# Altium integrated library Renesas Microprocessor SuperH.IntLib: 433 symbols (part 9 of 62)
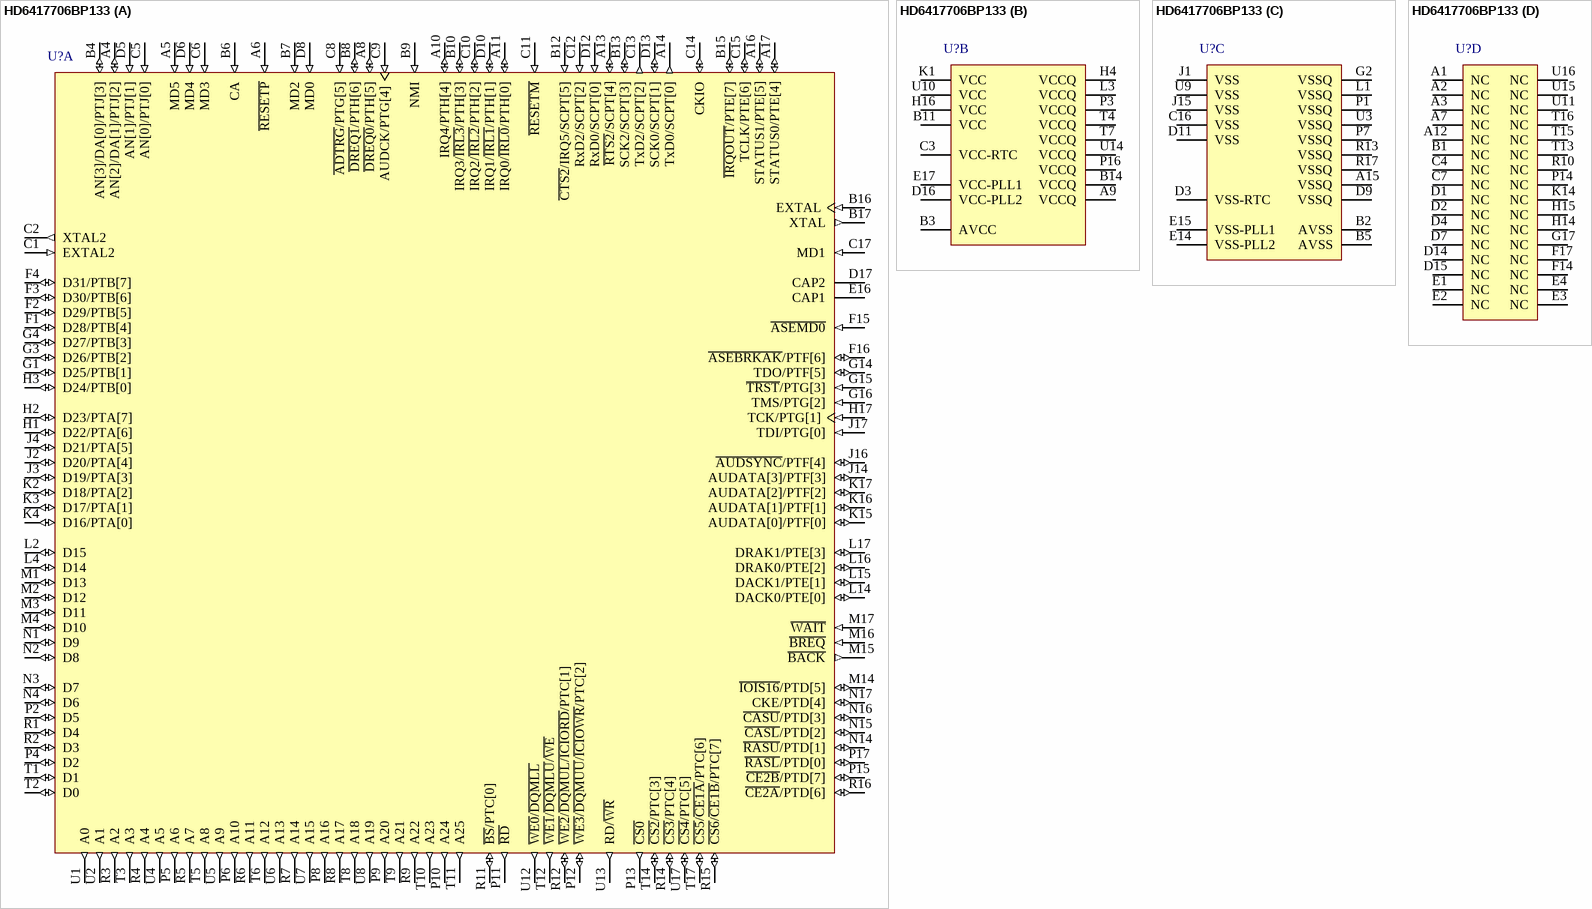
[diagram p284: symbol HD6417706BP133]

## HD6417706BP133
designator U?
32-Bit RISC Microcomputer, SH7700 Series, SH-3 core, 133MHz, 208-pin TFBGA, -20 to 75°C; Published: 28-Aug-2009; DatasheetVersion: Rev.5.00, May-2006; PackageVersion: Sep-2005; PackageReference: TTBG0208JA-A; Publisher: Altium Limited; PackageDescription: 208-Ball Thin Fine-Pitch Ball Grid Array, 12 x 12 mm Body, 0.65 mm Pitch; Code_JEITA: T-TFBGA208-12x12-0.65; ComponentLink1Description: Manufacturer Link; ComponentLink1URL: http://www.renesas.com/fmwk.jsp?cnt=sh7706_root.jsp&fp=/products/mpumcu/superh_family/sh7700_series/sh7706_group/; ComponentLink2Description: Datasheet; ComponentLink2URL: http://documentation.renesas.com/eng/products/mpumcu/rej09b0146_sh7706.pdf; ComponentLink3Description: Packaging Specification; ComponentLink3URL: http://sg.renesas.com/media/products/common_info/package/pdf/ic/code/ttbg0208ja_a.pdf
footprint TTBG0208JA-A (BGA, 208-Leads, Body 12x12mm, Pitch 0.65mm)
part A pins: A4 AN[2]/DA[1]/PTJ[2] (io) "A/D converter input / D/A converter output / input port J", A5 MD5 (in) "Endian setting", A6 ~{RESETP} (in) "Power-on reset request", A8 ~{DREQ0}/PTH[5] (io) "DMA request / input/output port H", A10 IRQ4/PTH[4] (io) "External interrupt request / input/output port H", A11 IRQ0/~{IRL0}/PTH[0] (io) "External interrupt request / input/output port H", A13 ~{RTS2}/SCPT[4] (io) "SCIF transmit request 2 / SC port", A14 TxD0/SCPT[0] (out) "SCI transmit data 0 / SC port", A16 STATUS1/PTE[5] (io) "Processor status / input/output port E", A17 STATUS0/PTE[4] (io) "Processor status / input/output port E", B4 AN[3]/DA[0]/PTJ[3] (io) "A/D converter input / D/A converter output / input port J", B6 CA (in) "Chip activate / hardware standby request", B7 MD2 (in) "Clock mode setting", B8 ~{DREQ1}/PTH[6] (io) "DMA request / input/output port H", B9 NMI (in) "Nonmaskable interrupt request", B10 IRQ3/~{IRL3}/PTH[3] (io) "External interrupt request / input/output port H", B12 ~{CTS2}/IRQ5/SCPT[5] (in) "SCIF transmit clear / external interruption request / SC port", B13 SCK2/SCPT[3] (io) "SCIF clock 2 / SC port", B15 ~{IRQOUT}/PTE[7] (io) "Interrupt request notification / input/output port E", B16 EXTAL (in) "External clock / crystal oscillator pin", B17 XTAL (out) "Clock oscillator pin", C1 EXTAL2 (in) "On-chip RTC crystal oscillator pin", C2 XTAL2 (out) "On-chip RTC crystal oscillator pin", C5 AN[0]/PTJ[0] (in) "A/D converter input / input port J", C6 MD3 (in) "Area 0 bus width setting", C8 ~{ADTRG}/PTG[5] (in) "Analog trigger / input port G", C9 AUDCK/PTG[4] (in) "AUD clock / input port G", C10 IRQ2/~{IRL2}/PTH[2] (io) "External interrupt request / input/output port H", C11 ~{RESETM} (in) "Manual reset request", C12 RxD2/SCPT[2] (in) "SCIF receive data 2 / SC port", C13 TxD2/SCPT[2] (out) "SCIF transmit data 2 / SC port", C14 CKIO (io) "System clock input/output", C15 TCLK/PTE[6] (io) "TMU or RTC clock input/output / input/output port E", C17 MD1 (in) "Clock mode setting", D5 AN[1]/PTJ[1] (in) "A/D converter input / input port J", D6 MD4 (in) "Area 0 bus width setting", D8 MD0 (in) "Clock mode setting", D10 IRQ1/~{IRL1}/PTH[1] (io) "External interrupt request / input/output port H", D12 RxD0/SCPT[0] (in) "SCI receive data 0 / SC port", D13 SCK0/SCPT[1] (io) "SCI clock 0 / SC port", D17 CAP2 "PLL2 external capacitance pin", E16 CAP1 "PLL1 external capacitance pin", F1 D28/PTB[4] (io) "Data bus / input/output port B", F2 D29/PTB[5] (io) "Data bus / input/output port B", F3 D30/PTB[6] (io) "Data bus / input/output port B", F4 D31/PTB[7] (io) "Data bus / input/output port B", F15 ~{ASEMD0} (in) "ASE mode (H-UDI)", F16 ~{ASEBRKAK}/PTF[6] (io) "ASE break acknowledge (H-UDI) / input/output port F", G1 D25/PTB[1] (io) "Data bus / input/output port B", G3 D26/PTB[2] (io) "Data bus / input/output port B", G4 D27/PTB[3] (io) "Data bus / input/output port B", G14 TDO/PTF[5] (io) "Data output (H-UDI) / input/output port F", G15 ~{TRST}/PTG[3] (in) "Reset (H-UDI) / input port G", G16 TMS/PTG[2] (in) "Mode select (H-UDI) / input port G", H1 D22/PTA[6] (io) "Data bus / input/output port A", H2 D23/PTA[7] (io) "Data bus / input/output port A", H3 D24/PTB[0] (io) "Data bus / input/output port B", H17 TCK/PTG[1] (in) "Clock (H-UDI) / input port G", J2 D20/PTA[4] (io) "Data bus / input/output port A", J3 D19/PTA[3] (io) "Data bus / input/output port A", J4 D21/PTA[5] (io) "Data bus / input/output port A", J14 AUDATA[3]/PTF[3] (io) "AUD data / input/output port F", J16 ~{AUDSYNC}/PTF[4] (io) "AUD synchronous / input/output port F", J17 TDI/PTG[0] (in) "Data input (H-UDI) / input port G", K2 D18/PTA[2] (io) "Data bus / input/output port A", K3 D17/PTA[1] (io) "Data bus / input/output port A", K4 D16/PTA[0] (io) "Data bus / input/output port A", K15 AUDATA[0]/PTF[0] (io) "AUD data / input/output port F", K16 AUDATA[1]/PTF[1] (io) "AUD data / input port F", K17 AUDATA[2]/PTF[2] (io) "AUD data / input/output port F", L2 D15 (io) "Data bus", L4 D14 (io) "Data bus", L14 DACK0/PTE[0] (io) "DMA acknowledge 0 / input/output port E", L15 DACK1/PTE[1] (io) "DMA acknowledge 1 / input/output port E", L16 DRAK0/PTE[2] (io) "DMA request acknowledge / input/output port E", L17 DRAK1/PTE[3] (io) "DMA request acknowledge / input/output port E", M1 D13 (io) "Data bus", M2 D12 (io) "Data bus", M3 D11 (io) "Data bus", M4 D10 (io) "Data bus", M14 ~{IOIS16}/PTD[5] (io) "IOIS16 (PCMCIA) / input port D", M15 ~{BACK} (out) "Bus acknowledge", M16 ~{BREQ} (in) "Bus request", M17 ~{WAIT} (in) "Hardware wait request", N1 D9 (io) "Data bus", N2 D8 (io) "Data bus", N3 D7 (io) "Data bus", N4 D6 (io) "Data bus", N14 ~{RASU}/PTD[1] (io) "Upper 32 Mbytes address RAS (SDRAM) / input/output port D", N15 ~{CASL}/PTD[2] (io) "Lower 32 Mbytes address CAS (SDRAM) / input/output port D", N16 ~{CASU}/PTD[3] (io) "Upper 32 Mbytes address CAS (SDRAM) / input/output port D", N17 CKE/PTD[4] (io) "CK enable (SDRAM) / input/output port D", P2 D5 (io) "Data bus", P4 D2 (io) "Data bus", P5 A6 (out) "Address bus", P6 A10 (out) "Address bus", P8 A16 (out) "Address bus", P9 A20 (out) "Address bus", P10 A24 (out) "Address bus", P11 ~{RD} (out) "Read strobe", P12 ~{WE3}/~{DQMUU}/~{ICIOWR}/PTC[2] (io) "D31 to D24 select signal / DQM (SDRAM) / PCMCIA input/output write / input/output port C", P13 ~{CS0} (out) "Chip select 0", P15 ~{CE2B}/PTD[7] (io) "Area 6 PCMCIA CE2 / input/output port D", P17 ~{RASL}/PTD[0] (io) "Lower 32 Mbytes address RAS (SDRAM) / input/output port D", R1 D4 (io) "Data bus", R2 D3 (io) "Data bus", R3 A2 (out) "Address bus", R4 A4 (out) "Address bus", R5 A7 (out) "Address bus", R6 A11 (out) "Address bus", R7 A14 (out) "Address bus", R8 A17 (out) "Address bus", R9 A22 (out) "Address bus", R11 ~{BS}/PTC[0] (io) "Bus cycle start signal / input/output port C", R12 ~{WE2}/~{DQMUL/ICIORD}/PTC[1] (io) "D23 to D16 select signal / DQM (SDRAM) / PCMCIA input/output read / input/output port C", R14 ~{CS3}/PTC[4] (io) "Chip select 3 / input/output port C", R15 ~{CS6}/~{CE1B}/PTC[7] (io) "Chipselect6/CE1(area6PCMCIA)/input/outputportC", R16 ~{CE2A}/PTD[6] (io) "Area 5 PCMCIA CE2 / input/output port D", T1 D1 (io) "Data bus", T2 D0 (io) "Data bus", T3 A3 (out) "Address bus", T5 A8 (out) "Address bus", T6 A12 (out) "Address bus", T8 A18 (out) "Address bus", T9 A21 (out) "Address bus", T10 A23 (out) "Address bus", T11 A25 (out) "Address bus", T12 ~{WE1}/~{DQMLU}/~{WE} (out) "D15 to D8 select signal / DQM (SDRAM) / write strobe (PCMCIA)", T14 ~{CS2}/PTC[3] (io) "Chip select 2 / input/output port C", T17 ~{CS5}/~{CE1A}/PTC[6] (io) "Chipselect5/CE1(area5PCMCIA)/input/outputportC", U1 A0 (out) "Address bus", U2 A1 (out) "Address bus", U4 A5 (out) "Address bus", U5 A9 (out) "Address bus", U6 A13 (out) "Address bus", U7 A15 (out) "Address bus", U8 A19 (out) "Address bus", U12 ~{WE0}/~{DQMLL} (out) "D7 to D0 select signal / DQM (SDRAM)", U13 RD/~{WR} (out) "Read/write", U17 ~{CS4}/PTC[5] (io) "Chip select 4 / input/output port C"
part B pins: A9 VCCQ (power) "Input/output power supply (3.3V)", B3 AVCC (power) "Analog power supply (3.3V)", B11 VCC (power) "Internal power supply (1.9V)", B14 VCCQ (power) "Input/output power supply (3.3V)", C3 VCC-RTC (power) "RTC power supply (1.9V)", D16 VCC-PLL2 (power) "PLL2 power supply (1.9V)", E17 VCC-PLL1 (power) "PLL1 power supply (1.9V)", H4 VCCQ (power) "Input/output power supply (3.3V)", H16 VCC (power) "Internal power supply (1.9V)", K1 VCC (power) "Internal power supply (1.9V)", L3 VCCQ (power) "Input/output power supply (3.3V)", P3 VCCQ (power) "Input/output power supply (3.3V)", P16 VCCQ (power) "Input/output power supply (3.3V)", T4 VCCQ (power) "Input/output power supply (3.3V)", T7 VCCQ (power) "Input/output power supply (3.3V)", U10 VCC (power) "Internal power supply (1.9V)", U14 VCCQ (power) "Input/output power supply (3.3V)"
part C pins: A15 VSSQ (power) "Input/output power supply (0V)", B2 AVSS (power) "Analog power supply (0V)", B5 AVSS (power) "Analog power supply (0V)", C16 VSS (power) "Internal power supply (0V)", D3 VSS-RTC (power) "RTC power supply (0V)", D9 VSSQ (power) "Input/output power supply (0V)", D11 VSS (power) "Internal power supply (0V)", E14 VSS-PLL2 (power) "PLL2 power supply (0V)", E15 VSS-PLL1 (power) "PLL1 power supply (0V)", G2 VSSQ (power) "Input/output power supply (0V)", J1 VSS (power) "Internal power supply (0V)", J15 VSS (power) "Internal power supply (0V)", L1 VSSQ (power) "Input/output power supply (0V)", P1 VSSQ (power) "Input/output power supply (0V)", P7 VSSQ (power) "Input/output power supply (0V)", R13 VSSQ (power) "Input/output power supply (0V)", R17 VSSQ (power) "Input/output power supply (0V)", U3 VSSQ (power) "Input/output power supply (0V)", U9 VSS (power) "Internal power supply (0V)"
part D pins: A1 NC "must be connected to VSS", A2 NC "must be connected to VSS", A3 NC "must be connected to VSS", A7 NC "must be connected to VSS", A12 NC "must be connected to VSS", B1 NC "must be connected to VSS", C4 NC "must be connected to VSS", C7 NC "must be connected to VSS", D1 NC "must be connected to VSS", D2 NC "must be connected to VSS", D4 NC "must be connected to VSS", D7 NC "must be connected to VSS", D14 NC "must be connected to VSS", D15 NC "must be connected to VSS", E1 NC "must be connected to VSS", E2 NC "must be connected to VSS", E3 NC "must be connected to VSS", E4 NC "must be connected to VSS", F14 NC "must be connected to VSS", F17 NC "must be connected to VSS", G17 NC "must be connected to VSS", H14 NC "must be connected to VSS", H15 NC "must be connected to VSS", K14 NC "must be connected to VSS", P14 NC "must be connected to VSS", R10 NC "must be connected to VSS", T13 NC "must be connected to VSS", T15 NC "must be connected to VSS", T16 NC "must be connected to VSS", U11 NC "must be connected to VSS", U15 NC "must be connected to VSS", U16 NC "must be connected to VSS"

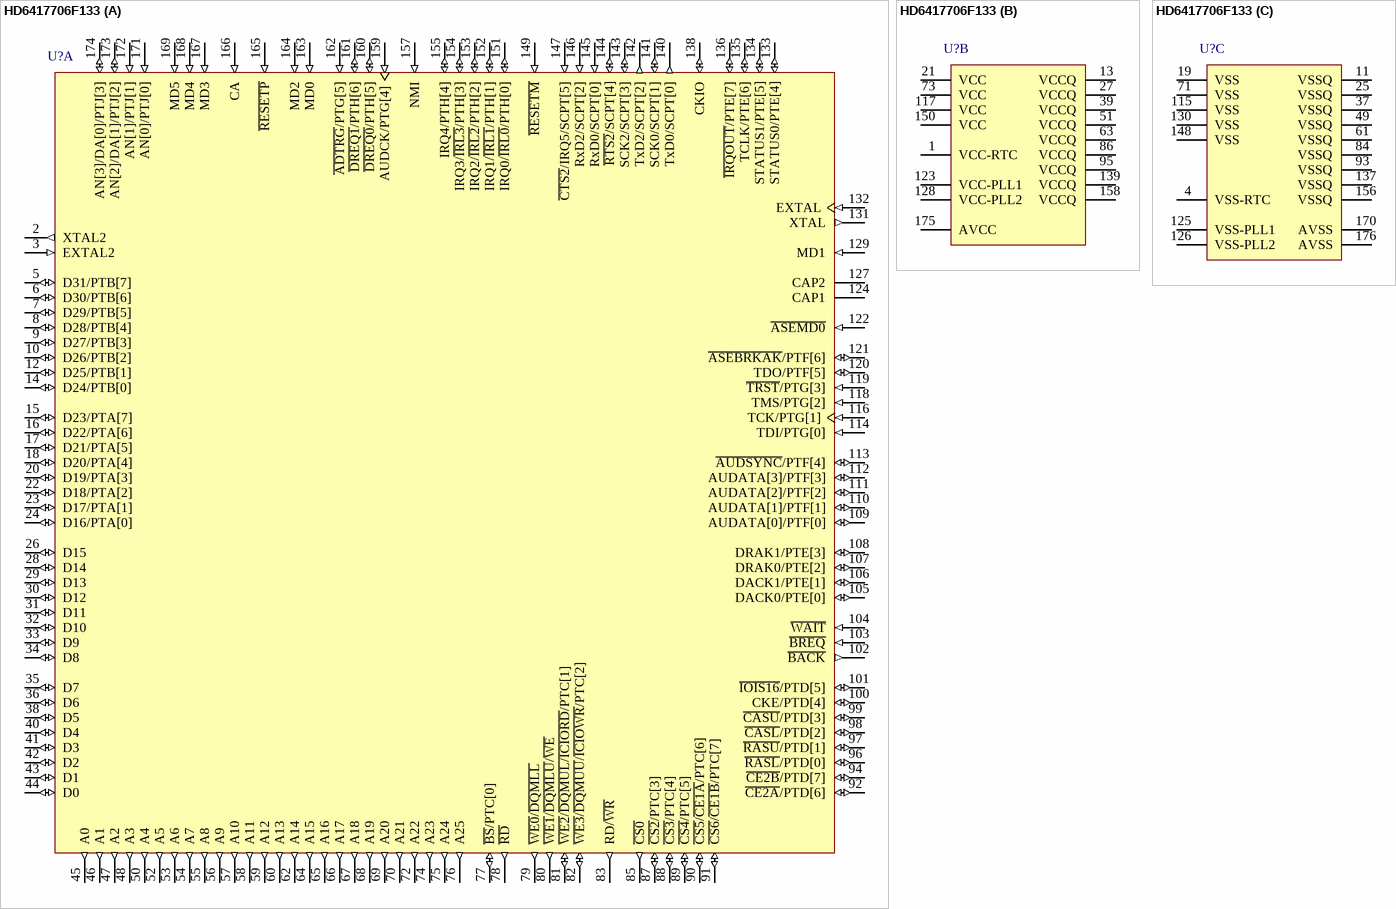
[diagram p31: symbol HD6417706F133]

## HD6417706F133
designator U?
32-Bit RISC Microcomputer, SH7700 Series, SH-3 core, 133MHz, 176-pin LQFP, -20 to 75°C; Published: 28-Aug-2009; DatasheetVersion: Rev.5.00, May-2006; PackageVersion: Sep-2005; PackageReference: PLQP0176KD-A; Publisher: Altium Limited; PackageDescription: 176-Pin Plastic Low Profile QFP, 24 x 24 x 1.4 mm Body, 0.5 mm Pitch; Supplier 1: Digi-Key; Supplier Part Number 1: HD6417706F133-ND; Code_JEITA: P-LQFP176-24x24-0.50; ComponentLink1Description: Manufacturer Link; ComponentLink1URL: http://www.renesas.com/fmwk.jsp?cnt=sh7706_root.jsp&fp=/products/mpumcu/superh_family/sh7700_series/sh7706_group/; ComponentLink2Description: Datasheet; ComponentLink2URL: http://documentation.renesas.com/eng/products/mpumcu/rej09b0146_sh7706.pdf; ComponentLink3Description: Packaging Specification; ComponentLink3URL: http://sg.renesas.com/media/products/common_info/package/pdf/ic/code/plqp0176kd_a.pdf
footprint PLQP0176KD-A_N (Shrink QFP, 176-Leads, Body 24x24mm, Pitch 0.5mm, IPC Medium Density)
footprint PLQP0176KD-A_L (Shrink QFP, 176-Leads, Body 24x24mm, Pitch 0.5mm, IPC High Density)
footprint PLQP0176KD-A_M (Shrink QFP, 176-Leads, Body 24x24mm, Pitch 0.5mm, IPC Low Density)
part A pins: 2 XTAL2 (out) "On-chip RTC crystal oscillator pin", 3 EXTAL2 (in) "On-chip RTC crystal oscillator pin", 5 D31/PTB[7] (io) "Data bus / input/output port B", 6 D30/PTB[6] (io) "Data bus / input/output port B", 7 D29/PTB[5] (io) "Data bus / input/output port B", 8 D28/PTB[4] (io) "Data bus / input/output port B", 9 D27/PTB[3] (io) "Data bus / input/output port B", 10 D26/PTB[2] (io) "Data bus / input/output port B", 12 D25/PTB[1] (io) "Data bus / input/output port B", 14 D24/PTB[0] (io) "Data bus / input/output port B", 15 D23/PTA[7] (io) "Data bus / input/output port A", 16 D22/PTA[6] (io) "Data bus / input/output port A", 17 D21/PTA[5] (io) "Data bus / input/output port A", 18 D20/PTA[4] (io) "Data bus / input/output port A", 20 D19/PTA[3] (io) "Data bus / input/output port A", 22 D18/PTA[2] (io) "Data bus / input/output port A", 23 D17/PTA[1] (io) "Data bus / input/output port A", 24 D16/PTA[0] (io) "Data bus / input/output port A", 26 D15 (io) "Data bus", 28 D14 (io) "Data bus", 29 D13 (io) "Data bus", 30 D12 (io) "Data bus", 31 D11 (io) "Data bus", 32 D10 (io) "Data bus", 33 D9 (io) "Data bus", 34 D8 (io) "Data bus", 35 D7 (io) "Data bus", 36 D6 (io) "Data bus", 38 D5 (io) "Data bus", 40 D4 (io) "Data bus", 41 D3 (io) "Data bus", 42 D2 (io) "Data bus", 43 D1 (io) "Data bus", 44 D0 (io) "Data bus", 45 A0 (out) "Address bus", 46 A1 (out) "Address bus", 47 A2 (out) "Address bus", 48 A3 (out) "Address bus", 50 A4 (out) "Address bus", 52 A5 (out) "Address bus", 53 A6 (out) "Address bus", 54 A7 (out) "Address bus", 55 A8 (out) "Address bus", 56 A9 (out) "Address bus", 57 A10 (out) "Address bus", 58 A11 (out) "Address bus", 59 A12 (out) "Address bus", 60 A13 (out) "Address bus", 62 A14 (out) "Address bus", 64 A15 (out) "Address bus", 65 A16 (out) "Address bus", 66 A17 (out) "Address bus", 67 A18 (out) "Address bus", 68 A19 (out) "Address bus", 69 A20 (out) "Address bus", 70 A21 (out) "Address bus", 72 A22 (out) "Address bus", 74 A23 (out) "Address bus", 75 A24 (out) "Address bus", 76 A25 (out) "Address bus", 77 ~{BS}/PTC[0] (io) "Bus cycle start signal / input/output port C", 78 ~{RD} (out) "Read strobe", 79 ~{WE0}/~{DQMLL} (out) "D7 to D0 select signal / DQM (SDRAM)", 80 ~{WE1}/~{DQMLU}/~{WE} (out) "D15 to D8 select signal / DQM (SDRAM) / write strobe (PCMCIA)", 81 ~{WE2}/~{DQMUL/ICIORD}/PTC[1] (io) "D23 to D16 select signal / DQM (SDRAM) / PCMCIA input/output read / input/output port C", 82 ~{WE3}/~{DQMUU}/~{ICIOWR}/PTC[2] (io) "D31 to D24 select signal / DQM (SDRAM) / PCMCIA input/output write / input/output port C", 83 RD/~{WR} (out) "Read/write", 85 ~{CS0} (out) "Chip select 0", 87 ~{CS2}/PTC[3] (io) "Chip select 2 / input/output port C", 88 ~{CS3}/PTC[4] (io) "Chip select 3 / input/output port C", 89 ~{CS4}/PTC[5] (io) "Chip select 4 / input/output port C", 90 ~{CS5}/~{CE1A}/PTC[6] (io) "Chipselect5/CE1(area5PCMCIA)/input/outputportC", 91 ~{CS6}/~{CE1B}/PTC[7] (io) "Chipselect6/CE1(area6PCMCIA)/input/outputportC", 92 ~{CE2A}/PTD[6] (io) "Area 5 PCMCIA CE2 / input/output port D", 94 ~{CE2B}/PTD[7] (io) "Area 6 PCMCIA CE2 / input/output port D", 96 ~{RASL}/PTD[0] (io) "Lower 32 Mbytes address RAS (SDRAM) / input/output port D", 97 ~{RASU}/PTD[1] (io) "Upper 32 Mbytes address RAS (SDRAM) / input/output port D", 98 ~{CASL}/PTD[2] (io) "Lower 32 Mbytes address CAS (SDRAM) / input/output port D", 99 ~{CASU}/PTD[3] (io) "Upper 32 Mbytes address CAS (SDRAM) / input/output port D", 100 CKE/PTD[4] (io) "CK enable (SDRAM) / input/output port D", 101 ~{IOIS16}/PTD[5] (io) "IOIS16 (PCMCIA) / input port D", 102 ~{BACK} (out) "Bus acknowledge", 103 ~{BREQ} (in) "Bus request", 104 ~{WAIT} (in) "Hardware wait request", 105 DACK0/PTE[0] (io) "DMA acknowledge 0 / input/output port E", 106 DACK1/PTE[1] (io) "DMA acknowledge 1 / input/output port E", 107 DRAK0/PTE[2] (io) "DMA request acknowledge / input/output port E", 108 DRAK1/PTE[3] (io) "DMA request acknowledge / input/output port E", 109 AUDATA[0]/PTF[0] (io) "AUD data / input/output port F", 110 AUDATA[1]/PTF[1] (io) "AUD data / input port F", 111 AUDATA[2]/PTF[2] (io) "AUD data / input/output port F", 112 AUDATA[3]/PTF[3] (io) "AUD data / input/output port F", 113 ~{AUDSYNC}/PTF[4] (io) "AUD synchronous / input/output port F", 114 TDI/PTG[0] (in) "Data input (H-UDI) / input port G", 116 TCK/PTG[1] (in) "Clock (H-UDI) / input port G", 118 TMS/PTG[2] (in) "Mode select (H-UDI) / input port G", 119 ~{TRST}/PTG[3] (in) "Reset (H-UDI) / input port G", 120 TDO/PTF[5] (io) "Data output (H-UDI) / input/output port F", 121 ~{ASEBRKAK}/PTF[6] (io) "ASE break acknowledge (H-UDI) / input/output port F", 122 ~{ASEMD0} (in) "ASE mode (H-UDI)", 124 CAP1 "PLL1 external capacitance pin", 127 CAP2 "PLL2 external capacitance pin", 129 MD1 (in) "Clock mode setting", 131 XTAL (out) "Clock oscillator pin", 132 EXTAL (in) "External clock / crystal oscillator pin", 133 STATUS0/PTE[4] (io) "Processor status / input/output port E", 134 STATUS1/PTE[5] (io) "Processor status / input/output port E", 135 TCLK/PTE[6] (io) "TMU or RTC clock input/output / input/output port E", 136 ~{IRQOUT}/PTE[7] (io) "Interrupt request notification / input/output port E", 138 CKIO (io) "System clock input/output", 140 TxD0/SCPT[0] (out) "SCI transmit data 0 / SC port", 141 SCK0/SCPT[1] (io) "SCI clock 0 / SC port", 142 TxD2/SCPT[2] (out) "SCIF transmit data 2 / SC port", 143 SCK2/SCPT[3] (io) "SCIF clock 2 / SC port", 144 ~{RTS2}/SCPT[4] (io) "SCIF transmit request 2 / SC port", 145 RxD0/SCPT[0] (in) "SCI receive data 0 / SC port", 146 RxD2/SCPT[2] (in) "SCIF receive data 2 / SC port", 147 ~{CTS2}/IRQ5/SCPT[5] (in) "SCIF transmit clear / external interruption request / SC port", 149 ~{RESETM} (in) "Manual reset request", 151 IRQ0/~{IRL0}/PTH[0] (io) "External interrupt request / input/output port H", 152 IRQ1/~{IRL1}/PTH[1] (io) "External interrupt request / input/output port H", 153 IRQ2/~{IRL2}/PTH[2] (io) "External interrupt request / input/output port H", 154 IRQ3/~{IRL3}/PTH[3] (io) "External interrupt request / input/output port H", 155 IRQ4/PTH[4] (io) "External interrupt request / input/output port H", 157 NMI (in) "Nonmaskable interrupt request", 159 AUDCK/PTG[4] (in) "AUD clock / input port G", 160 ~{DREQ0}/PTH[5] (io) "DMA request / input/output port H", 161 ~{DREQ1}/PTH[6] (io) "DMA request / input/output port H", 162 ~{ADTRG}/PTG[5] (in) "Analog trigger / input port G", 163 MD0 (in) "Clock mode setting", 164 MD2 (in) "Clock mode setting", 165 ~{RESETP} (in) "Power-on reset request", 166 CA (in) "Chip activate / hardware standby request", 167 MD3 (in) "Area 0 bus width setting", 168 MD4 (in) "Area 0 bus width setting", 169 MD5 (in) "Endian setting", 171 AN[0]/PTJ[0] (in) "A/D converter input / input port J", 172 AN[1]/PTJ[1] (in) "A/D converter input / input port J", 173 AN[2]/DA[1]/PTJ[2] (io) "A/D converter input / D/A converter output / input port J", 174 AN[3]/DA[0]/PTJ[3] (io) "A/D converter input / D/A converter output / input port J"
part B pins: 1 VCC-RTC (power) "RTC power supply (1.9V)", 13 VCCQ (power) "Input/output power supply (3.3V)", 21 VCC (power) "Internal power supply (1.9V)", 27 VCCQ (power) "Input/output power supply (3.3V)", 39 VCCQ (power) "Input/output power supply (3.3V)", 51 VCCQ (power) "Input/output power supply (3.3V)", 63 VCCQ (power) "Input/output power supply (3.3V)", 73 VCC (power) "Internal power supply (1.9V)", 86 VCCQ (power) "Input/output power supply (3.3V)", 95 VCCQ (power) "Input/output power supply (3.3V)", 117 VCC (power) "Internal power supply (1.9V)", 123 VCC-PLL1 (power) "PLL1 power supply (1.9V)", 128 VCC-PLL2 (power) "PLL2 power supply (1.9V)", 139 VCCQ (power) "Input/output power supply (3.3V)", 150 VCC (power) "Internal power supply (1.9V)", 158 VCCQ (power) "Input/output power supply (3.3V)", 175 AVCC (power) "Analog power supply (3.3V)"
part C pins: 4 VSS-RTC (power) "RTC power supply (0V)", 11 VSSQ (power) "Input/output power supply (0V)", 19 VSS (power) "Internal power supply (0V)", 25 VSSQ (power) "Input/output power supply (0V)", 37 VSSQ (power) "Input/output power supply (0V)", 49 VSSQ (power) "Input/output power supply (0V)", 61 VSSQ (power) "Input/output power supply (0V)", 71 VSS (power) "Internal power supply (0V)", 84 VSSQ (power) "Input/output power supply (0V)", 93 VSSQ (power) "Input/output power supply (0V)", 115 VSS (power) "Internal power supply (0V)", 125 VSS-PLL1 (power) "PLL1 power supply (0V)", 126 VSS-PLL2 (power) "PLL2 power supply (0V)", 130 VSS (power) "Internal power supply (0V)", 137 VSSQ (power) "Input/output power supply (0V)", 148 VSS (power) "Internal power supply (0V)", 156 VSSQ (power) "Input/output power supply (0V)", 170 AVSS (power) "Analog power supply (0V)", 176 AVSS (power) "Analog power supply (0V)"

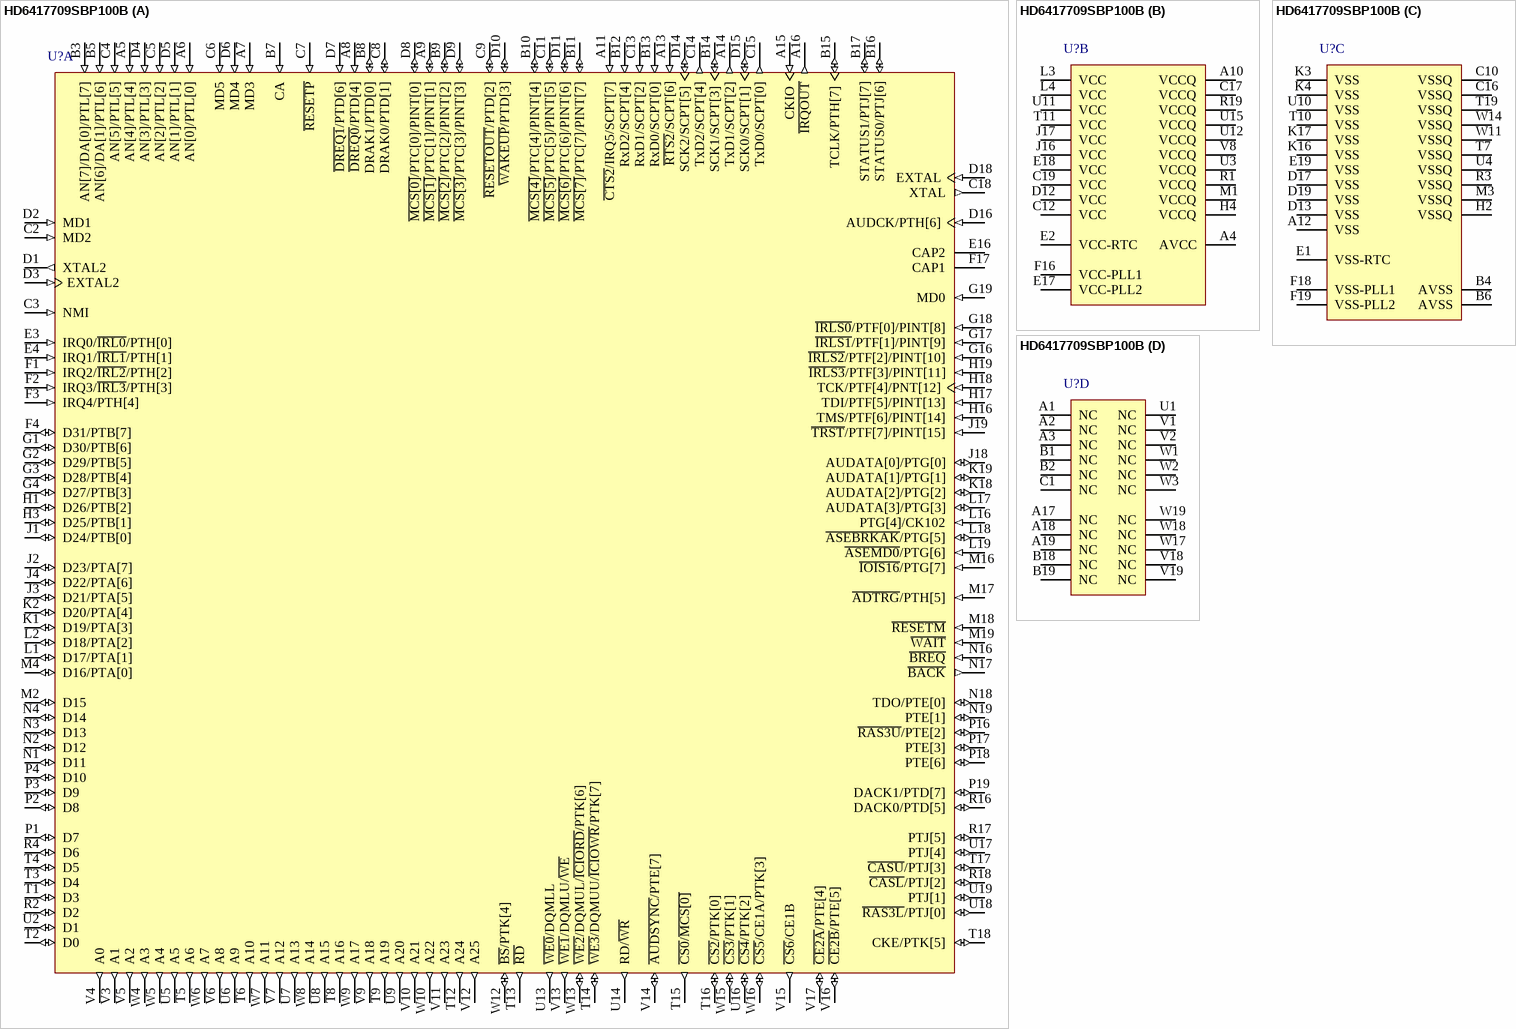
[diagram p32: symbol HD6417709SBP100B]

## HD6417709SBP100B
designator U?
32-Bit RISC Microcomputer, SH7700 Series, SH-3 core, 100MHz, 240-pin CSP, -20 to 75°C; Published: 28-Aug-2009; DatasheetVersion: Rev.5.00, Sep-2003; PackageVersion: Sep-2005; PackageReference: PLBG0240JA-A; Publisher: Altium Limited; PackageDescription: 240-Ball Plastic Low Profile Fine-Pitch BGA, 13 x 13 mm Body, 0.65 mm Pitch; Code_JEITA: P-LFBGA240-13x13-0.65; ComponentLink1Description: Manufacturer Link; ComponentLink1URL: http://www.renesas.com/fmwk.jsp?cnt=sh7709s_root.jsp&fp=/products/mpumcu/superh_family/sh7700_series/sh7709s_group/; ComponentLink2Description: Datasheet; ComponentLink2URL: http://documentation.renesas.com/eng/products/mpumcu/rej09b0081_sh7709s.pdf; ComponentLink3Description: Packaging Specification; ComponentLink3URL: http://sg.renesas.com/media/products/common_info/package/pdf/ic/code/plbg0240ja_a.pdf
footprint PLBG0240JA-A (BGA, 240-Leads, Body 13x13mm, Pitch 0.65mm)
part A pins: A5 AN[4]/PTL[4] (in) "A/D converter input / input port L", A6 AN[0]/PTL[0] (in) "A/D converter input / input port L", A7 MD3 (in) "Area 0 bus width setting", A8 ~{DREQ0}/PTD[4] (in) "DMA request / input port D", A9 ~{MCS[1]}/PTC[1]/PINT[1] (io) "Mask ROM chip select / input/output port C / port interrupt", A11 ~{CTS2}/IRQ5/SCPT[7] (in) "Transmit clear 2 / external interrupt request / SCI input port", A13 ~{RTS2}/SCPT[6] (in) "Transmit request 2 / SCI input/output port", A14 TxD1/SCPT[2] (out) "Transmit data 1 / SCI output port", A15 CKIO (in) "System clock input/output", A16 ~{IRQOUT} (out) "Interrupt request notification", B3 AN[7]/DA[0]/PTL[7] (in) "A/D converter input / D/A converter output / input port L", B5 AN[6]/DA[1]/PTL[6] (in) "A/D converter input / D/A converter output / input port L", B7 CA (in) "Chip activate (hardware standby request signal)", B8 DRAK1/PTD[0] (io) "DMA request acknowledge / input/output port D", B9 ~{MCS[2]}/PTC[2]/PINT[2] (io) "Mask ROM chip select / input/output port C / port interrupt", B10 ~{MCS[4]}/PTC[4]/PINT[4] (io) "Mask ROM chip select / input/output port C / port interrupt", B11 ~{MCS[7]}/PTC[7]/PINT[7] (io) "Mask ROM chip select / input/output port C / port interrupt", B12 RxD2/SCPT[4] (in) "Transmit data 2 / SCI output port", B13 RxD0/SCPT[0] (in) "Transmit data 0 / SCI output port", B14 SCK1/SCPT[3] (io) "Serial clock 1 port / SCI input/output", B15 TCLK/PTH[7] (io) "TMU or RTC clock input/output / input/output port H", B16 STATUS0/PTJ[6] (io) "Processor status / input/output port J", B17 STATUS1/PTJ[7] (io) "Processor status / input/output port J", C2 MD2 (in) "Clock mode setting", C3 NMI (in) "Nonmaskable interrupt request", C4 AN[5]/PTL[5] (in) "A/D converter input / input port L", C5 AN[2]/PTL[2] (in) "A/D converter input / input port L", C6 MD5 (in) "Endian setting", C7 ~{RESETP} (in) "Power-on reset request", C8 DRAK0/PTD[1] (io) "DMA request acknowledge / input/output port D", C9 ~{RESETOUT}/PTD[2] (io) "Reset output / input/output port D", C11 ~{MCS[5]}/PTC[5]/PINT[5] (io) "Mask ROM chip select / input/output port C / port interrupt", C13 RxD1/SCPT[2] (in) "Transmit data 1 / SCI output port", C14 TxD2/SCPT[4] (out) "Transmit data 2 / SCI output port", C15 TxD0/SCPT[0] (out) "Transmit data 0 / SCI output port", C18 XTAL (out) "Clock oscillator pin", D1 XTAL2 (out) "On-chip RTC crystal oscillator pin", D2 MD1 (in) "Clock mode setting", D3 EXTAL2 (in) "On-chip RTC crystal oscillator pin", D4 AN[3]/PTL[3] (in) "A/D converter input / input port L", D5 AN[1]/PTL[1] (in) "A/D converter input / input port L", D6 MD4 (in) "Area 0 bus width setting", D7 ~{DREQ1}/PTD[6] (in) "DMA request / input port D", D8 ~{MCS[0]}/PTC[0]/PINT[0] (io) "Mask ROM chip select / input/output port C / port interrupt", D9 ~{MCS[3]}/PTC[3]/PINT[3] (io) "Mask ROM chip select / input/output port C / port interrupt", D10 ~{WAKEUP}/PTD[3] (io) "Standby mode interrupt request notification / input/output port D", D11 ~{MCS[6]}/PTC[6]/PINT[6] (io) "Mask ROM chip select / input/output port C / port interrupt", D14 SCK2/SCPT[5] (io) "Serial clock 2 port / SCI input/output", D15 SCK0/SCPT[1] (io) "Serial clock 0 port / SCI input/output", D16 AUDCK/PTH[6] (in) "AUD clock / input port H", D18 EXTAL (in) "External clock pin / crystal oscillator", E3 IRQ0/~{IRL0}/PTH[0] (in) "External interrupt request/input port H", E4 IRQ1/~{IRL1}/PTH[1] (in) "External interrupt request/input port H", E16 CAP2 "PLL2 external capacitance pin", F1 IRQ2/~{IRL2}/PTH[2] (in) "External interrupt request/input port H", F2 IRQ3/~{IRL3}/PTH[3] (in) "External interrupt request/input port H", F3 IRQ4/PTH[4] (in) "External interrupt request/input port H", F4 D31/PTB[7] (io) "Data bus / input/output port B", F17 CAP1 "PLL1 external capacitance pin", G1 D30/PTB[6] (io) "Data bus / input/output port B", G2 D29/PTB[5] (io) "Data bus / input/output port B", G3 D28/PTB[4] (io) "Data bus / input/output port B", G4 D27/PTB[3] (io) "Data bus / input/output port B", G16 ~{IRLS2}/PTF[2]/PINT[10] (in) "External interrupt request / input port F / port interrupt", G17 ~{IRLS1}/PTF[1]/PINT[9] (in) "External interrupt request / input port F / port interrupt", G18 ~{IRLS0}/PTF[0]/PINT[8] (in) "External interrupt request / input port F / port interrupt", G19 MD0 (in) "Clock mode setting", H1 D26/PTB[2] (io) "Data bus / input/output port B", H3 D25/PTB[1] (io) "Data bus / input/output port B", H16 TMS/PTF[6]/PINT[14] (in) "Test mode switch / input port F / port interrupt", H17 TDI/PTF[5]/PINT[13] (in) "Test data input / input port F / port interrupt", H18 TCK/PTF[4]/PNT[12] (in) "Test clock / input port F / port interrupt", H19 ~{IRLS3}/PTF[3]/PINT[11] (in) "External interrupt request / input port F / port interrupt", J1 D24/PTB[0] (io) "Data bus / input/output port B", J2 D23/PTA[7] (io) "Data bus / input/output port A", J3 D21/PTA[5] (io) "Data bus / input/output port A", J4 D22/PTA[6] (io) "Data bus / input/output port A", J18 AUDATA[0]/PTG[0] (io) "AUD data / input port G", J19 ~{TRST}/PTF[7]/PINT[15] (in) "Test reset / input port F / port interrupt", K1 D19/PTA[3] (io) "Data bus / input/output port A", K2 D20/PTA[4] (io) "Data bus / input/output port A", K18 AUDATA[2]/PTG[2] (io) "AUD data / input port G", K19 AUDATA[1]/PTG[1] (io) "AUD data / input port G", L1 D17/PTA[1] (io) "Data bus / input/output port A", L2 D18/PTA[2] (io) "Data bus / input/output port A", L16 PTG[4]/CK102 (in) "Input port G / clock output", L17 AUDATA[3]/PTG[3] (io) "AUD data / input port G", L18 ~{ASEBRKAK}/PTG[5] (io) "ASE break acknowledge / input port G", L19 ~{ASEMD0}/PTG[6] (in) "ASE mode/ input port G", M2 D15 (io) "Data bus", M4 D16/PTA[0] (io) "Data bus / input/output port A", M16 ~{IOIS16}/PTG[7] (in) "IOIS16 (PCMCIA) / input port G", M17 ~{ADTRG}/PTH[5] (in) "Analog trigger / input port H", M18 ~{RESETM} (in) "Manual reset request", M19 ~{WAIT} (in) "Hardware wait request", N1 D11 (io) "Data bus", N2 D12 (io) "Data bus", N3 D13 (io) "Data bus", N4 D14 (io) "Data bus", N16 ~{BREQ} (in) "Bus request", N17 ~{BACK} (out) "Bus acknowledge", N18 TDO/PTE[0] (io) "Test data output / input/output port E", N19 PTE[1] (io) "Input/output port E", P1 D7 (io) "Data bus", P2 D8 (io) "Data bus", P3 D9 (io) "Data bus", P4 D10 (io) "Data bus", P16 ~{RAS3U}/PTE[2] (io) "Upper 32 Mbytes address (SDRAM) RAS / input/output port E", P17 PTE[3] (io) "Input/output port E", P18 PTE[6] (io) "Input/output port E", P19 DACK1/PTD[7] (io) "DMA acknowledge 1 / input/output port D", R2 D2 (io) "Data bus", R4 D6 (io) "Data bus", R16 DACK0/PTD[5] (io) "DMA acknowledge 0 / input/output port D", R17 PTJ[5] (io) "Input/output port J", R18 ~{CASL}/PTJ[2] (io) "Lower 32 M / 64 Mbytes address (SDRAM) CAS / input/output port J", T1 D3 (io) "Data bus", T2 D0 (io) "Data bus", T3 D4 (io) "Data bus", T4 D5 (io) "Data bus", T5 A6 (out) "Address bus", T6 A10 (out) "Address bus", T8 A16 (out) "Address bus", T9 A19 (out) "Address bus", T12 A24 (out) "Address bus", T13 ~{RD} (out) "Read strobe", T14 ~{WE3}/DQMUU/~{ICIOWR}/PTK[7] (io) "D31–D24 select signal / DQM (SDRAM) / PCMCIA I/O write / input/output port K", T15 ~{CS0}/~{MCS[0]} (out) "Chip select 0 / mask ROM chip select 0", T16 ~{CS2}/PTK[0] (io) "Chip select 2 / input/output port K", T17 ~{CASU}/PTJ[3] (io) "Lower 32 Mbytes address (SDRAM) CAS / input/output port J", T18 CKE/PTK[5] (io) "CK enable (SDRAM) / input/output port K", U2 D1 (io) "Data bus", U5 A5 (out) "Address bus", U6 A9 (out) "Address bus", U7 A13 (out) "Address bus", U8 A15 (out) "Address bus", U9 A20 (out) "Address bus", U13 ~{WE0}/DQMLL (out) "D7–D0 select signal / DQM (SDRAM)", U14 RD/~{WR} (out) "Read/write", U16 ~{CS4}/PTK[2] (io) "Chip select 4 / input/output port K", U17 PTJ[4] (io) "Input/output port J", U18 ~{RAS3L}/PTJ[0] (io) "Lower 32 M / 64 Mbytes address (SDRAM) RAS / input/output port J", U19 PTJ[1] (io) "Input/output port J", V3 A1 (out) "Address bus", V4 A0 (out) "Address bus", V5 A2 (out) "Address bus", V6 A8 (out) "Address bus", V7 A12 (out) "Address bus", V9 A18 (out) "Address bus", V10 A21 (out) "Address bus", V11 A23 (out) "Address bus", V12 A25 (out) "Address bus", V13 ~{WE1}/DQMLU/~{WE} (out) "D15–D8 select signal / DQM (SDRAM)", V14 ~{AUDSYNC}/PTE[7] (io) "AUD synchronous / input/output port E", V15 ~{CS6}/CE1B (out) "Chip select 6/CE1 (area 6 PCMCIA)", V16 ~{CE2B}/PTE[5] (io) "CE2 (area 6 PCMCIA) / input/output port E", V17 ~{CE2A}/PTE[4] (io) "CE2 (area 5 PCMCIA) / input/output port E", W4 A3 (out) "Address bus", W5 A4 (out) "Address bus", W6 A7 (out) "Address bus", W7 A11 (out) "Address bus", W8 A14 (out) "Address bus", W9 A17 (out) "Address bus", W10 A22 (out) "Address bus", W12 ~{BS}/PTK[4] (io) "Bus cycle start signal / input/output port K", W13 ~{WE2}/DQMUL/~{ICIORD}/PTK[6] (io) "D23–D16 select signal / DQM (SDRAM) / PCMCIA I/O read / input/output port K", W15 ~{CS3}/PTK[1] (io) "Chip select 3 / input/output port K", W16 ~{CS5}/CE1A/PTK[3] (io) "Chip select 5/CE1 (area 5 PCMCIA) / input/output port K"
part B pins: A4 AVCC (power) "Analog power supply (3.3V)", A10 VCCQ (power) "Input/output power supply (3.3V)", C12 VCC (power) "Power supply", C17 VCCQ (power) "Power supply (3.3V)", C19 VCC (power) "Power supply", D12 VCC (power) "Power supply", E2 VCC-RTC (power) "RTC power supply", E17 VCC-PLL2 (power) "PLL2 power supply", E18 VCC (power) "Power supply", F16 VCC-PLL1 (power) "PLL1 power supply", H4 VCCQ (power) "Input/output power supply (3.3V)", J16 VCC (power) "Power supply", J17 VCC (power) "Power supply", L3 VCC (power) "Power supply (1.9 V/1.8V)", L4 VCC (power) "Power supply", M1 VCCQ (power) "Input/output power supply (3.3V)", R1 VCCQ (power) "Input/output power supply (3.3V)", R19 VCCQ (power) "Input/output power supply (3.3V)", T11 VCC (power) "Power supply", U3 VCCQ (power) "Input/output power supply (3.3V)", U11 VCC (power) "Power supply", U12 VCCQ (power) "Input/output power supply (3.3V)", U15 VCCQ (power) "Input/output power supply (3.3V)", V8 VCCQ (power) "Input/output power supply (3.3V)"
part C pins: A12 VSS (power) "Power supply (0V)", B4 AVSS (power) "Analog power supply (0V)", B6 AVSS (power) "Analog power supply (0V)", C10 VSSQ (power) "Input/output power supply (0V)", C16 VSSQ (power) "Input/output power supply (0V)", D13 VSS (power) "Power supply (0V)", D17 VSS (power) "Power supply (0V)", D19 VSS (power) "Power supply (0V)", E1 VSS-RTC (power) "RTC power supply (0V)", E19 VSS (power) "Power supply (0V)", F18 VSS-PLL1 (power) "PLL1 power supply (0V)", F19 VSS-PLL2 (power) "PLL2 power supply (0V)", H2 VSSQ (power) "Input/output power supply (0V)", K3 VSS (power) "Power supply (0V)", K4 VSS (power) "Power supply (0V)", K16 VSS (power) "Power supply (0V)", K17 VSS (power) "Power supply (0V)", M3 VSSQ (power) "Input/output power supply (0V)", R3 VSSQ (power) "Input/output power supply (0V)", T7 VSSQ (power) "Input/output power supply (0V)", T10 VSS (power) "Power supply (0V)", T19 VSSQ (power) "Input/output power supply (0V)", U4 VSSQ (power) "Input/output power supply (0V)", U10 VSS (power) "Power supply (0V)", W11 VSSQ (power) "Input/output power supply (0V)", W14 VSSQ (power) "Input/output power supply (0V)"
part D pins: A1 NC "Do not connect anything to this pin.", A2 NC "Do not connect anything to this pin.", A3 NC "Do not connect anything to this pin.", A17 NC "Do not connect anything to this pin.", A18 NC "Do not connect anything to this pin.", A19 NC "Do not connect anything to this pin.", B1 NC "Do not connect anything to this pin.", B2 NC "Do not connect anything to this pin.", B18 NC "Do not connect anything to this pin.", B19 NC "Do not connect anything to this pin.", C1 NC "Do not connect anything to this pin.", U1 NC "Do not connect anything to this pin.", V1 NC "Do not connect anything to this pin.", V2 NC "Do not connect anything to this pin.", V18 NC "Do not connect anything to this pin.", V19 NC "Do not connect anything to this pin.", W1 NC "Do not connect anything to this pin.", W2 NC "Do not connect anything to this pin.", W3 NC "Do not connect anything to this pin.", W17 NC "Do not connect anything to this pin.", W18 NC "Do not connect anything to this pin.", W19 NC "Do not connect anything to this pin."

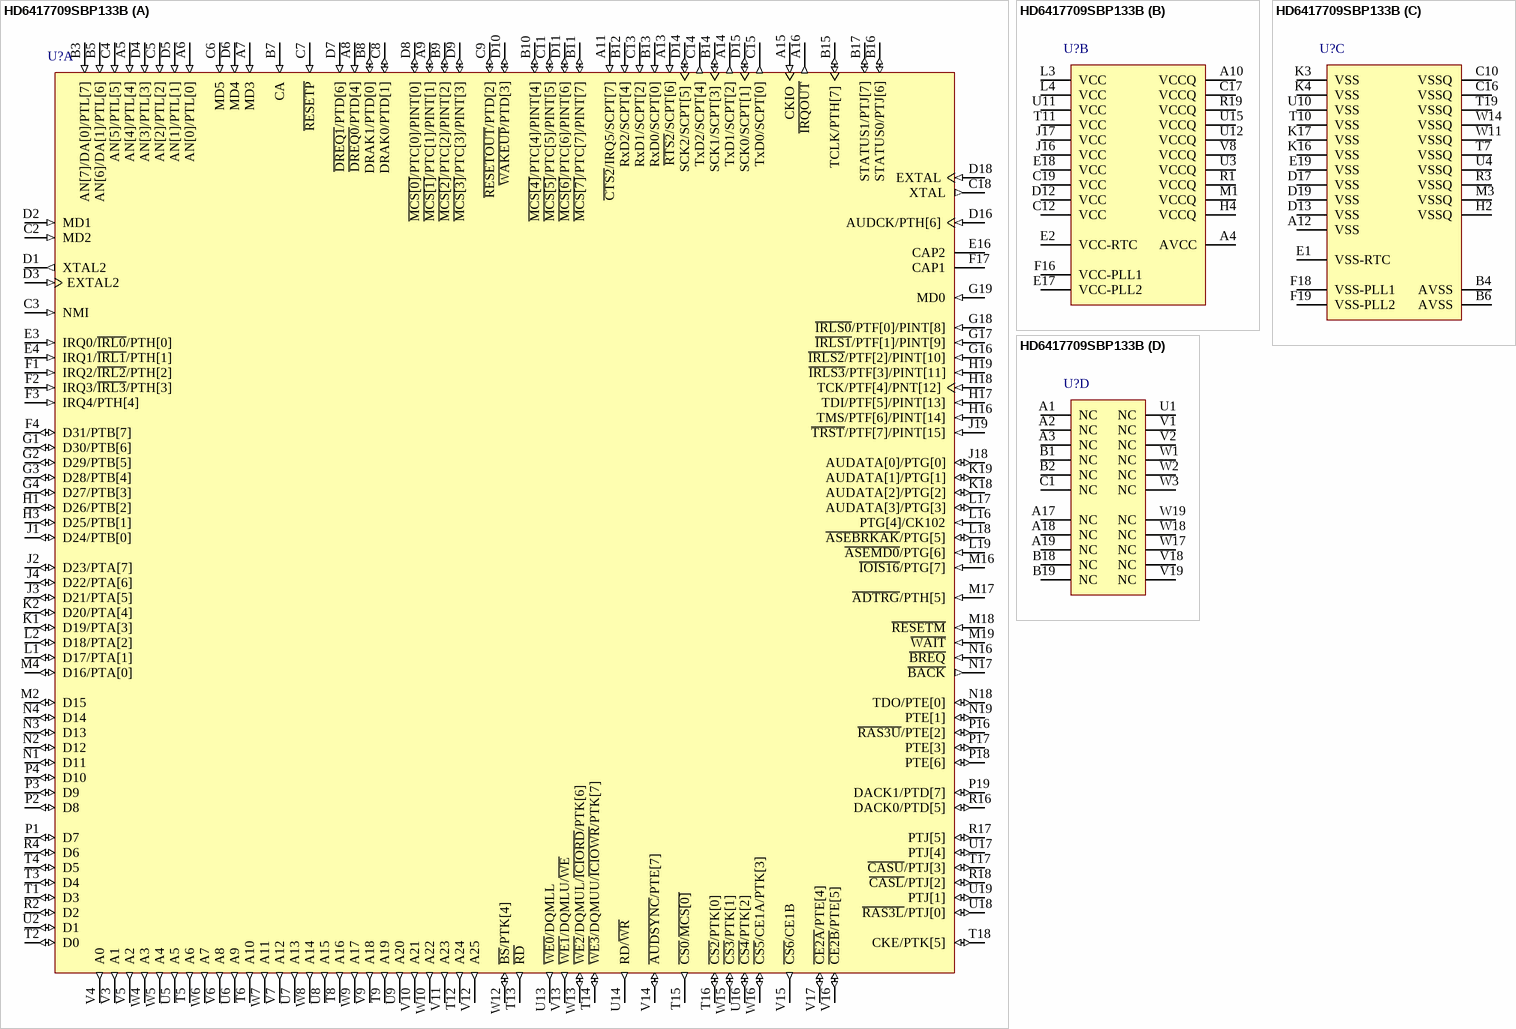
[diagram p33: symbol HD6417709SBP133B]

## HD6417709SBP133B
designator U?
32-Bit RISC Microcomputer, SH7700 Series, SH-3 core, 133MHz, 240-pin CSP, -20 to 75°C; Published: 28-Aug-2009; DatasheetVersion: Rev.5.00, Sep-2003; PackageVersion: Sep-2005; PackageReference: PLBG0240JA-A; Publisher: Altium Limited; PackageDescription: 240-Ball Plastic Low Profile Fine-Pitch BGA, 13 x 13 mm Body, 0.65 mm Pitch; Supplier 1: Digi-Key; Supplier Part Number 1: HD6417709SBP133B-ND; Code_JEITA: P-LFBGA240-13x13-0.65; ComponentLink1Description: Manufacturer Link; ComponentLink1URL: http://www.renesas.com/fmwk.jsp?cnt=sh7709s_root.jsp&fp=/products/mpumcu/superh_family/sh7700_series/sh7709s_group/; ComponentLink2Description: Datasheet; ComponentLink2URL: http://documentation.renesas.com/eng/products/mpumcu/rej09b0081_sh7709s.pdf; ComponentLink3Description: Packaging Specification; ComponentLink3URL: http://sg.renesas.com/media/products/common_info/package/pdf/ic/code/plbg0240ja_a.pdf
footprint PLBG0240JA-A (BGA, 240-Leads, Body 13x13mm, Pitch 0.65mm)
part A pins: A5 AN[4]/PTL[4] (in) "A/D converter input / input port L", A6 AN[0]/PTL[0] (in) "A/D converter input / input port L", A7 MD3 (in) "Area 0 bus width setting", A8 ~{DREQ0}/PTD[4] (in) "DMA request / input port D", A9 ~{MCS[1]}/PTC[1]/PINT[1] (io) "Mask ROM chip select / input/output port C / port interrupt", A11 ~{CTS2}/IRQ5/SCPT[7] (in) "Transmit clear 2 / external interrupt request / SCI input port", A13 ~{RTS2}/SCPT[6] (in) "Transmit request 2 / SCI input/output port", A14 TxD1/SCPT[2] (out) "Transmit data 1 / SCI output port", A15 CKIO (in) "System clock input/output", A16 ~{IRQOUT} (out) "Interrupt request notification", B3 AN[7]/DA[0]/PTL[7] (in) "A/D converter input / D/A converter output / input port L", B5 AN[6]/DA[1]/PTL[6] (in) "A/D converter input / D/A converter output / input port L", B7 CA (in) "Chip activate (hardware standby request signal)", B8 DRAK1/PTD[0] (io) "DMA request acknowledge / input/output port D", B9 ~{MCS[2]}/PTC[2]/PINT[2] (io) "Mask ROM chip select / input/output port C / port interrupt", B10 ~{MCS[4]}/PTC[4]/PINT[4] (io) "Mask ROM chip select / input/output port C / port interrupt", B11 ~{MCS[7]}/PTC[7]/PINT[7] (io) "Mask ROM chip select / input/output port C / port interrupt", B12 RxD2/SCPT[4] (in) "Transmit data 2 / SCI output port", B13 RxD0/SCPT[0] (in) "Transmit data 0 / SCI output port", B14 SCK1/SCPT[3] (io) "Serial clock 1 port / SCI input/output", B15 TCLK/PTH[7] (io) "TMU or RTC clock input/output / input/output port H", B16 STATUS0/PTJ[6] (io) "Processor status / input/output port J", B17 STATUS1/PTJ[7] (io) "Processor status / input/output port J", C2 MD2 (in) "Clock mode setting", C3 NMI (in) "Nonmaskable interrupt request", C4 AN[5]/PTL[5] (in) "A/D converter input / input port L", C5 AN[2]/PTL[2] (in) "A/D converter input / input port L", C6 MD5 (in) "Endian setting", C7 ~{RESETP} (in) "Power-on reset request", C8 DRAK0/PTD[1] (io) "DMA request acknowledge / input/output port D", C9 ~{RESETOUT}/PTD[2] (io) "Reset output / input/output port D", C11 ~{MCS[5]}/PTC[5]/PINT[5] (io) "Mask ROM chip select / input/output port C / port interrupt", C13 RxD1/SCPT[2] (in) "Transmit data 1 / SCI output port", C14 TxD2/SCPT[4] (out) "Transmit data 2 / SCI output port", C15 TxD0/SCPT[0] (out) "Transmit data 0 / SCI output port", C18 XTAL (out) "Clock oscillator pin", D1 XTAL2 (out) "On-chip RTC crystal oscillator pin", D2 MD1 (in) "Clock mode setting", D3 EXTAL2 (in) "On-chip RTC crystal oscillator pin", D4 AN[3]/PTL[3] (in) "A/D converter input / input port L", D5 AN[1]/PTL[1] (in) "A/D converter input / input port L", D6 MD4 (in) "Area 0 bus width setting", D7 ~{DREQ1}/PTD[6] (in) "DMA request / input port D", D8 ~{MCS[0]}/PTC[0]/PINT[0] (io) "Mask ROM chip select / input/output port C / port interrupt", D9 ~{MCS[3]}/PTC[3]/PINT[3] (io) "Mask ROM chip select / input/output port C / port interrupt", D10 ~{WAKEUP}/PTD[3] (io) "Standby mode interrupt request notification / input/output port D", D11 ~{MCS[6]}/PTC[6]/PINT[6] (io) "Mask ROM chip select / input/output port C / port interrupt", D14 SCK2/SCPT[5] (io) "Serial clock 2 port / SCI input/output", D15 SCK0/SCPT[1] (io) "Serial clock 0 port / SCI input/output", D16 AUDCK/PTH[6] (in) "AUD clock / input port H", D18 EXTAL (in) "External clock pin / crystal oscillator", E3 IRQ0/~{IRL0}/PTH[0] (in) "External interrupt request/input port H", E4 IRQ1/~{IRL1}/PTH[1] (in) "External interrupt request/input port H", E16 CAP2 "PLL2 external capacitance pin", F1 IRQ2/~{IRL2}/PTH[2] (in) "External interrupt request/input port H", F2 IRQ3/~{IRL3}/PTH[3] (in) "External interrupt request/input port H", F3 IRQ4/PTH[4] (in) "External interrupt request/input port H", F4 D31/PTB[7] (io) "Data bus / input/output port B", F17 CAP1 "PLL1 external capacitance pin", G1 D30/PTB[6] (io) "Data bus / input/output port B", G2 D29/PTB[5] (io) "Data bus / input/output port B", G3 D28/PTB[4] (io) "Data bus / input/output port B", G4 D27/PTB[3] (io) "Data bus / input/output port B", G16 ~{IRLS2}/PTF[2]/PINT[10] (in) "External interrupt request / input port F / port interrupt", G17 ~{IRLS1}/PTF[1]/PINT[9] (in) "External interrupt request / input port F / port interrupt", G18 ~{IRLS0}/PTF[0]/PINT[8] (in) "External interrupt request / input port F / port interrupt", G19 MD0 (in) "Clock mode setting", H1 D26/PTB[2] (io) "Data bus / input/output port B", H3 D25/PTB[1] (io) "Data bus / input/output port B", H16 TMS/PTF[6]/PINT[14] (in) "Test mode switch / input port F / port interrupt", H17 TDI/PTF[5]/PINT[13] (in) "Test data input / input port F / port interrupt", H18 TCK/PTF[4]/PNT[12] (in) "Test clock / input port F / port interrupt", H19 ~{IRLS3}/PTF[3]/PINT[11] (in) "External interrupt request / input port F / port interrupt", J1 D24/PTB[0] (io) "Data bus / input/output port B", J2 D23/PTA[7] (io) "Data bus / input/output port A", J3 D21/PTA[5] (io) "Data bus / input/output port A", J4 D22/PTA[6] (io) "Data bus / input/output port A", J18 AUDATA[0]/PTG[0] (io) "AUD data / input port G", J19 ~{TRST}/PTF[7]/PINT[15] (in) "Test reset / input port F / port interrupt", K1 D19/PTA[3] (io) "Data bus / input/output port A", K2 D20/PTA[4] (io) "Data bus / input/output port A", K18 AUDATA[2]/PTG[2] (io) "AUD data / input port G", K19 AUDATA[1]/PTG[1] (io) "AUD data / input port G", L1 D17/PTA[1] (io) "Data bus / input/output port A", L2 D18/PTA[2] (io) "Data bus / input/output port A", L16 PTG[4]/CK102 (in) "Input port G / clock output", L17 AUDATA[3]/PTG[3] (io) "AUD data / input port G", L18 ~{ASEBRKAK}/PTG[5] (io) "ASE break acknowledge / input port G", L19 ~{ASEMD0}/PTG[6] (in) "ASE mode/ input port G", M2 D15 (io) "Data bus", M4 D16/PTA[0] (io) "Data bus / input/output port A", M16 ~{IOIS16}/PTG[7] (in) "IOIS16 (PCMCIA) / input port G", M17 ~{ADTRG}/PTH[5] (in) "Analog trigger / input port H", M18 ~{RESETM} (in) "Manual reset request", M19 ~{WAIT} (in) "Hardware wait request", N1 D11 (io) "Data bus", N2 D12 (io) "Data bus", N3 D13 (io) "Data bus", N4 D14 (io) "Data bus", N16 ~{BREQ} (in) "Bus request", N17 ~{BACK} (out) "Bus acknowledge", N18 TDO/PTE[0] (io) "Test data output / input/output port E", N19 PTE[1] (io) "Input/output port E", P1 D7 (io) "Data bus", P2 D8 (io) "Data bus", P3 D9 (io) "Data bus", P4 D10 (io) "Data bus", P16 ~{RAS3U}/PTE[2] (io) "Upper 32 Mbytes address (SDRAM) RAS / input/output port E", P17 PTE[3] (io) "Input/output port E", P18 PTE[6] (io) "Input/output port E", P19 DACK1/PTD[7] (io) "DMA acknowledge 1 / input/output port D", R2 D2 (io) "Data bus", R4 D6 (io) "Data bus", R16 DACK0/PTD[5] (io) "DMA acknowledge 0 / input/output port D", R17 PTJ[5] (io) "Input/output port J", R18 ~{CASL}/PTJ[2] (io) "Lower 32 M / 64 Mbytes address (SDRAM) CAS / input/output port J", T1 D3 (io) "Data bus", T2 D0 (io) "Data bus", T3 D4 (io) "Data bus", T4 D5 (io) "Data bus", T5 A6 (out) "Address bus", T6 A10 (out) "Address bus", T8 A16 (out) "Address bus", T9 A19 (out) "Address bus", T12 A24 (out) "Address bus", T13 ~{RD} (out) "Read strobe", T14 ~{WE3}/DQMUU/~{ICIOWR}/PTK[7] (io) "D31–D24 select signal / DQM (SDRAM) / PCMCIA I/O write / input/output port K", T15 ~{CS0}/~{MCS[0]} (out) "Chip select 0 / mask ROM chip select 0", T16 ~{CS2}/PTK[0] (io) "Chip select 2 / input/output port K", T17 ~{CASU}/PTJ[3] (io) "Lower 32 Mbytes address (SDRAM) CAS / input/output port J", T18 CKE/PTK[5] (io) "CK enable (SDRAM) / input/output port K", U2 D1 (io) "Data bus", U5 A5 (out) "Address bus", U6 A9 (out) "Address bus", U7 A13 (out) "Address bus", U8 A15 (out) "Address bus", U9 A20 (out) "Address bus", U13 ~{WE0}/DQMLL (out) "D7–D0 select signal / DQM (SDRAM)", U14 RD/~{WR} (out) "Read/write", U16 ~{CS4}/PTK[2] (io) "Chip select 4 / input/output port K", U17 PTJ[4] (io) "Input/output port J", U18 ~{RAS3L}/PTJ[0] (io) "Lower 32 M / 64 Mbytes address (SDRAM) RAS / input/output port J", U19 PTJ[1] (io) "Input/output port J", V3 A1 (out) "Address bus", V4 A0 (out) "Address bus", V5 A2 (out) "Address bus", V6 A8 (out) "Address bus", V7 A12 (out) "Address bus", V9 A18 (out) "Address bus", V10 A21 (out) "Address bus", V11 A23 (out) "Address bus", V12 A25 (out) "Address bus", V13 ~{WE1}/DQMLU/~{WE} (out) "D15–D8 select signal / DQM (SDRAM)", V14 ~{AUDSYNC}/PTE[7] (io) "AUD synchronous / input/output port E", V15 ~{CS6}/CE1B (out) "Chip select 6/CE1 (area 6 PCMCIA)", V16 ~{CE2B}/PTE[5] (io) "CE2 (area 6 PCMCIA) / input/output port E", V17 ~{CE2A}/PTE[4] (io) "CE2 (area 5 PCMCIA) / input/output port E", W4 A3 (out) "Address bus", W5 A4 (out) "Address bus", W6 A7 (out) "Address bus", W7 A11 (out) "Address bus", W8 A14 (out) "Address bus", W9 A17 (out) "Address bus", W10 A22 (out) "Address bus", W12 ~{BS}/PTK[4] (io) "Bus cycle start signal / input/output port K", W13 ~{WE2}/DQMUL/~{ICIORD}/PTK[6] (io) "D23–D16 select signal / DQM (SDRAM) / PCMCIA I/O read / input/output port K", W15 ~{CS3}/PTK[1] (io) "Chip select 3 / input/output port K", W16 ~{CS5}/CE1A/PTK[3] (io) "Chip select 5/CE1 (area 5 PCMCIA) / input/output port K"
part B pins: A4 AVCC (power) "Analog power supply (3.3V)", A10 VCCQ (power) "Input/output power supply (3.3V)", C12 VCC (power) "Power supply", C17 VCCQ (power) "Power supply (3.3V)", C19 VCC (power) "Power supply", D12 VCC (power) "Power supply", E2 VCC-RTC (power) "RTC power supply", E17 VCC-PLL2 (power) "PLL2 power supply", E18 VCC (power) "Power supply", F16 VCC-PLL1 (power) "PLL1 power supply", H4 VCCQ (power) "Input/output power supply (3.3V)", J16 VCC (power) "Power supply", J17 VCC (power) "Power supply", L3 VCC (power) "Power supply (1.9 V/1.8V)", L4 VCC (power) "Power supply", M1 VCCQ (power) "Input/output power supply (3.3V)", R1 VCCQ (power) "Input/output power supply (3.3V)", R19 VCCQ (power) "Input/output power supply (3.3V)", T11 VCC (power) "Power supply", U3 VCCQ (power) "Input/output power supply (3.3V)", U11 VCC (power) "Power supply", U12 VCCQ (power) "Input/output power supply (3.3V)", U15 VCCQ (power) "Input/output power supply (3.3V)", V8 VCCQ (power) "Input/output power supply (3.3V)"
part C pins: A12 VSS (power) "Power supply (0V)", B4 AVSS (power) "Analog power supply (0V)", B6 AVSS (power) "Analog power supply (0V)", C10 VSSQ (power) "Input/output power supply (0V)", C16 VSSQ (power) "Input/output power supply (0V)", D13 VSS (power) "Power supply (0V)", D17 VSS (power) "Power supply (0V)", D19 VSS (power) "Power supply (0V)", E1 VSS-RTC (power) "RTC power supply (0V)", E19 VSS (power) "Power supply (0V)", F18 VSS-PLL1 (power) "PLL1 power supply (0V)", F19 VSS-PLL2 (power) "PLL2 power supply (0V)", H2 VSSQ (power) "Input/output power supply (0V)", K3 VSS (power) "Power supply (0V)", K4 VSS (power) "Power supply (0V)", K16 VSS (power) "Power supply (0V)", K17 VSS (power) "Power supply (0V)", M3 VSSQ (power) "Input/output power supply (0V)", R3 VSSQ (power) "Input/output power supply (0V)", T7 VSSQ (power) "Input/output power supply (0V)", T10 VSS (power) "Power supply (0V)", T19 VSSQ (power) "Input/output power supply (0V)", U4 VSSQ (power) "Input/output power supply (0V)", U10 VSS (power) "Power supply (0V)", W11 VSSQ (power) "Input/output power supply (0V)", W14 VSSQ (power) "Input/output power supply (0V)"
part D pins: A1 NC "Do not connect anything to this pin.", A2 NC "Do not connect anything to this pin.", A3 NC "Do not connect anything to this pin.", A17 NC "Do not connect anything to this pin.", A18 NC "Do not connect anything to this pin.", A19 NC "Do not connect anything to this pin.", B1 NC "Do not connect anything to this pin.", B2 NC "Do not connect anything to this pin.", B18 NC "Do not connect anything to this pin.", B19 NC "Do not connect anything to this pin.", C1 NC "Do not connect anything to this pin.", U1 NC "Do not connect anything to this pin.", V1 NC "Do not connect anything to this pin.", V2 NC "Do not connect anything to this pin.", V18 NC "Do not connect anything to this pin.", V19 NC "Do not connect anything to this pin.", W1 NC "Do not connect anything to this pin.", W2 NC "Do not connect anything to this pin.", W3 NC "Do not connect anything to this pin.", W17 NC "Do not connect anything to this pin.", W18 NC "Do not connect anything to this pin.", W19 NC "Do not connect anything to this pin."

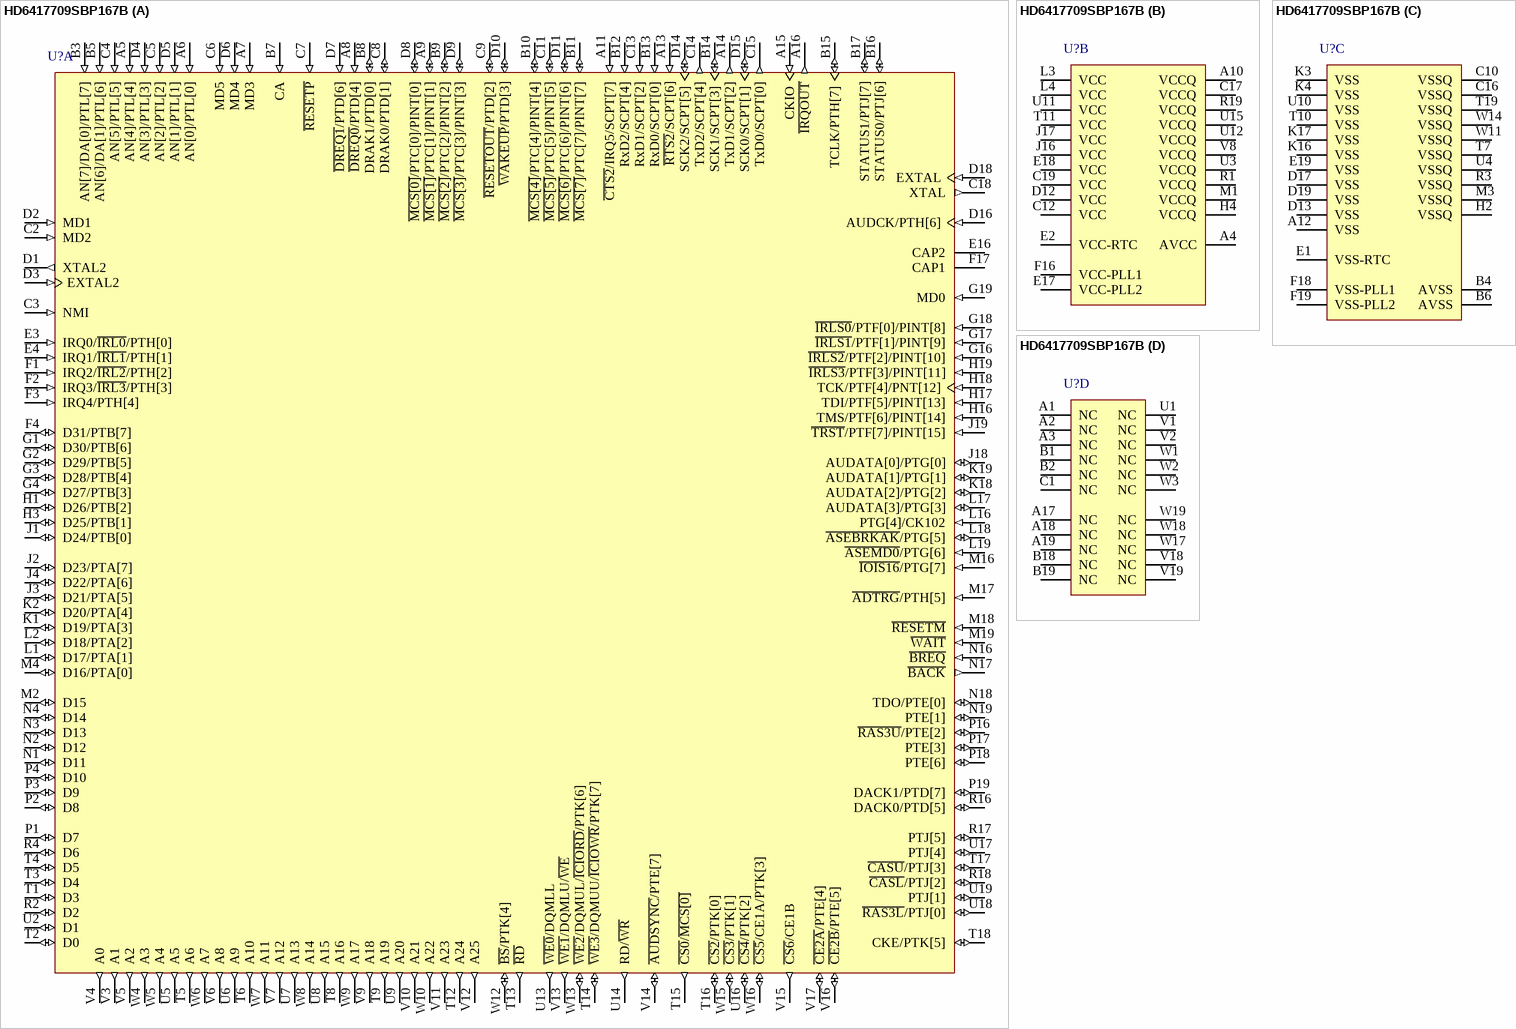
[diagram p34: symbol HD6417709SBP167B]